# EAGLE library part 74LVC2T45 (library progduino)
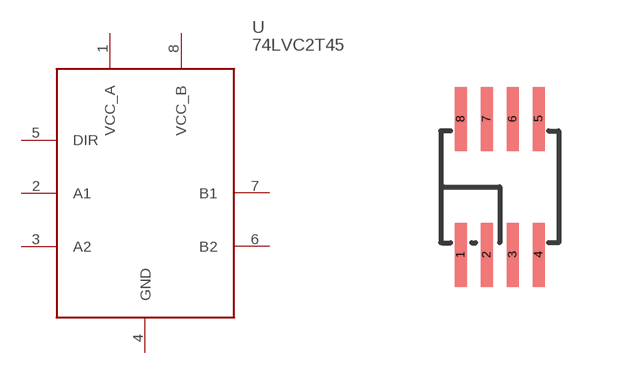
[diagram p0: symbol with the pads of SM8; footprint SM8]

Designator prefix -

## 74LVC2T45  [SM8]
1  VCC_A
2  A1
3  A2
4  GND
5  DIR
6  B2
7  B1
8  VCC_B

## Footprint SM8 (pad centres in mm)
smd 0.3 x 1.6: 1 -0.975,-1.7; 2 -0.325,-1.7; 3 0.325,-1.7; 4 0.975,-1.7; 5 0.975,1.7; 6 0.325,1.7; 7 -0.325,1.7; 8 -0.975,1.7